# Altium footprint library RES.PCBLIB: 55 footprints (part 1 of 4)
Each footprint in its own frame and in the unit in brackets; x right, y up, seen from the top. Pads: shape width x height; smd on the part's side, far side on the other; paste and mask are expansions set on the pad; w line width, h text height; cw(c..) or ccw(c..) is an arc to the next point about the centre after c.
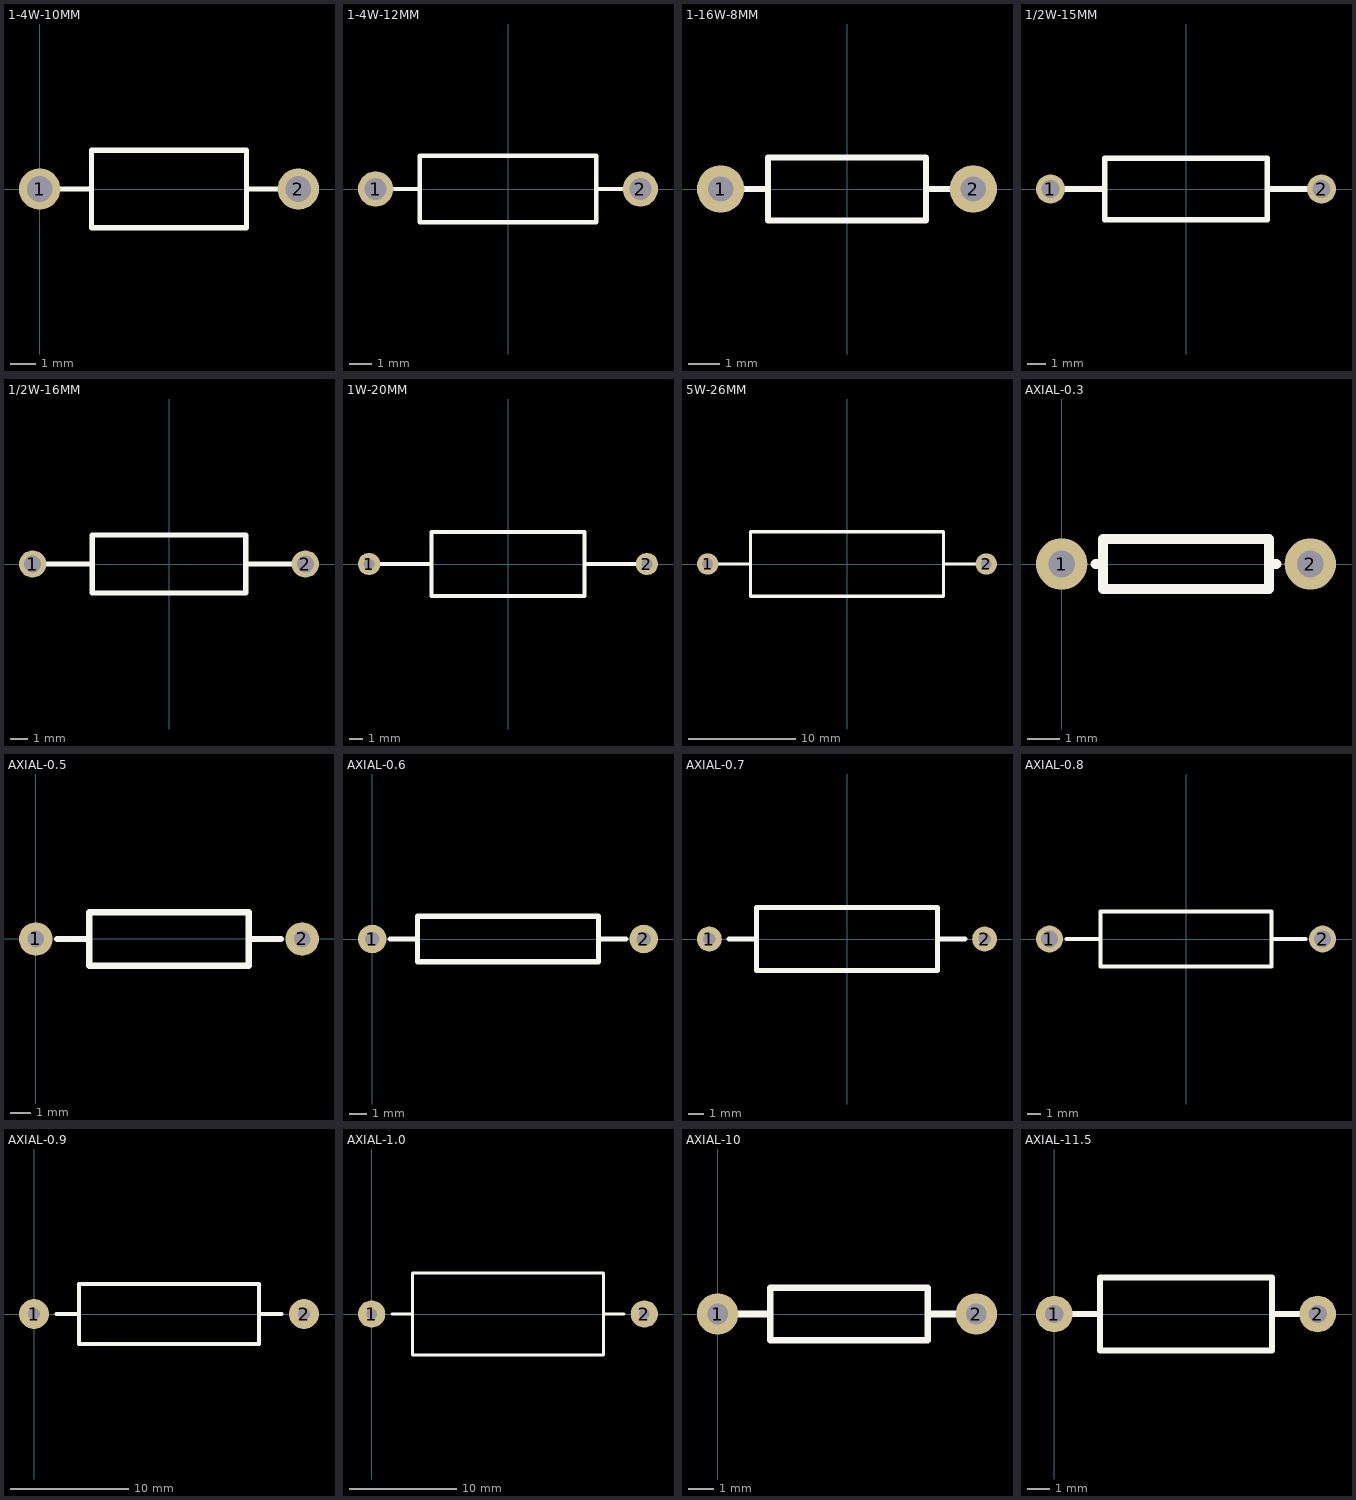
[diagram p0: the footprints below, top view; thin cyan lines are the x and y axes]

## 1-4W-10MM [mm]
pads (2):
  round 1.6 hole 1: 1(0,0) 2(10,0)
TopOverlay:
  lines w0.2: 0,0 1.975,0 ; 8,0 10,0 ; 2,-1.5 2,1.5 8,1.5 8,-1.5 2,-1.5

## 1-4W-12MM [mm]
pads (2):
  round 1.6 hole 1: 1(-6,0) 2(6,0)
TopOverlay:
  lines w0.2: -6,0 -4.025,0 ; 4,0 6,0 ; -4,-1.5 -4,1.5 4,1.5 4,-1.5 -4,-1.5

## 1-16W-8MM [mm]
pads (2):
  round 1.5 hole 0.8: 1(-4,0) 2(4,0)
TopOverlay:
  lines w0.2: -4,0 -2.5,0 ; 2.525,0 4,0 ; -2.5,-1 2.5,-1 2.5,1 -2.5,1 -2.5,-1

## 1/2W-15MM [mm]
pads (2):
  round 1.6 hole 1: 1(-7.5,0) 2(7.5,0)
TopOverlay:
  lines w0.305: -7.5,0 -4.5,0 ; 4.5,0 7.5,0 ; -4.5,-1.7 -4.5,1.7 4.5,1.7 4.5,-1.7 -4.5,-1.7

## 1/2W-16MM [mm]
pads (2):
  round 1.6 hole 1: 1(-8,0) 2(8,0)
TopOverlay:
  lines w0.305: -8,0 -4.5,0 ; 4.5,0 7.5,0 ; -4.5,-1.7 -4.5,1.7 4.5,1.7 4.5,-1.7 -4.5,-1.7

## 1W-20MM [mm]
pads (2):
  round 1.6 hole 0.8: 1(-10,0) 2(10,0)
TopOverlay:
  lines w0.305: -10,0 -5.5,0 ; 5.5,0 10,0 ; -5.5,-2.3 5.5,-2.3 5.5,2.3 -5.5,2.3 -5.5,-2.3

## 5W-26MM [mm]
pads (2):
  round 2 hole 1: 1(-13,0) 2(13,0)
TopOverlay:
  lines w0.305: -13,0 -9,0 ; 9,0 13,0 ; -9,-3 9,-3 9,3 -9,3 -9,-3

## AXIAL-0.3 [mil]
pads (2):
  round 62 hole 32: 1(0,0) 2(300,0)
TopOverlay:
  lines w12: 41,0 50,0 ; 259,0 250,0 ; 250,0 250,-30 50,-30 50,30 250,30 250,0

## AXIAL-0.5 [mm]
pads (2):
  round 1.6 hole 0.8: 1(0,0) 2(12.7,0)
TopOverlay:
  lines w0.305: 1.016,0 2.54,0 ; 10.16,0 11.684,0 ; 2.54,-1.27 2.54,1.27 10.16,1.27 10.16,-1.27 2.54,-1.27

## AXIAL-0.6 [mm]
pads (2):
  round 1.6 hole 0.8: 1(0,0) 2(15.24,0)
TopOverlay:
  lines w0.305: 1.016,0 2.54,0 ; 12.7,0 14.224,0 ; 2.54,-1.27 2.54,1.27 12.7,1.27 12.7,-1.27 2.54,-1.27

## AXIAL-0.7 [mm]
pads (2):
  round 1.6 hole 0.8: 1(-8.89,0) 2(8.89,0)
TopOverlay:
  lines w0.305: -7.62,0 -5.842,0 ; 5.842,0 7.62,0 ; -5.842,-2.032 -5.842,2.032 5.842,2.032 5.842,-2.032 -5.842,-2.032

## AXIAL-0.8 [mm]
pads (2):
  round 2 hole 1.27: 1(-10.16,0) 2(10.16,0)
TopOverlay:
  lines w0.305: -8.89,0 -6.35,0 ; 6.35,0 8.89,0 ; -6.35,-2.032 6.35,-2.032 6.35,2.032 -6.35,2.032 -6.35,-2.032

## AXIAL-0.9 [mm]
pads (2):
  round 2.54 hole 1: 1(0,0) 2(22.86,0)
TopOverlay:
  lines w0.305: 1.905,0 3.81,0 ; 19.05,0 20.955,0 ; 3.81,-2.54 3.81,2.54 19.05,2.54 19.05,-2.54 3.81,-2.54

## AXIAL-1.0 [mm]
pads (2):
  round 2.54 hole 1: 1(0,0) 2(25.4,0)
TopOverlay:
  lines w0.305: 1.905,0 3.81,0 ; 21.59,0 23.495,0 ; 3.81,-3.81 3.81,3.81 21.59,3.81 21.59,-3.81 3.81,-3.81

## AXIAL-10 [mm]
pads (2):
  round 1.6 hole 0.8: 1(0,0) 2(10,0)
TopOverlay:
  lines w0.254: 0,0 2.032,0 ; 8.128,0 10,0 ; 2.032,-1.016 8.128,-1.016 8.128,1.016 2.032,1.016 2.032,-1.016

## AXIAL-11.5 [mm]
pads (2):
  round 1.6 hole 0.8: 1(0,0) 2(11.5,0)
TopOverlay:
  lines w0.254: 0,0 2,0 ; 9.5,0 11.5,0 ; 2,-1.6 9.5,-1.6 9.5,1.6 2,1.6 2,-1.6